# EAGLE library part SENSOR-HP03M (library Module)
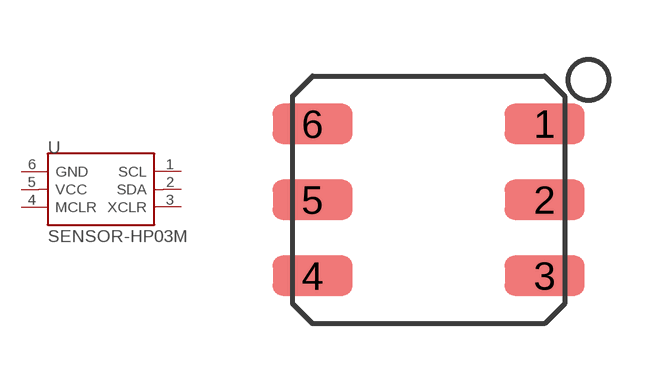
[diagram p16: symbol with the pads of 8P-SMD-6.8X6.2; footprint 8P-SMD-6.8X6.2]

Designator prefix U

## SENSOR-HP03M  [8P-SMD-6.8X6.2]
1  SCL
2  SDA
3  XCLR
4  MCLR
5  VCC
6  GND

## Footprint 8P-SMD-6.8X6.2 (pad centres in mm)
http://www.datasheetdir.com/go-HP03M.pdf
smd 2 x 1: 1 2.9,1.9; 2 2.9,0; 3 2.9,-1.9; 4 -2.9,-1.9; 5 -2.9,0; 6 -2.9,1.9